# Altium footprint library resistor.PCBLIB: 427 footprints (part 26 of 27)
Each footprint in its own frame and in the unit in brackets; x right, y up, seen from the top. Pads: shape width x height; smd on the part's side, far side on the other; paste and mask are expansions set on the pad; w line width, h text height; cw(c..) or ccw(c..) is an arc to the next point about the centre after c.
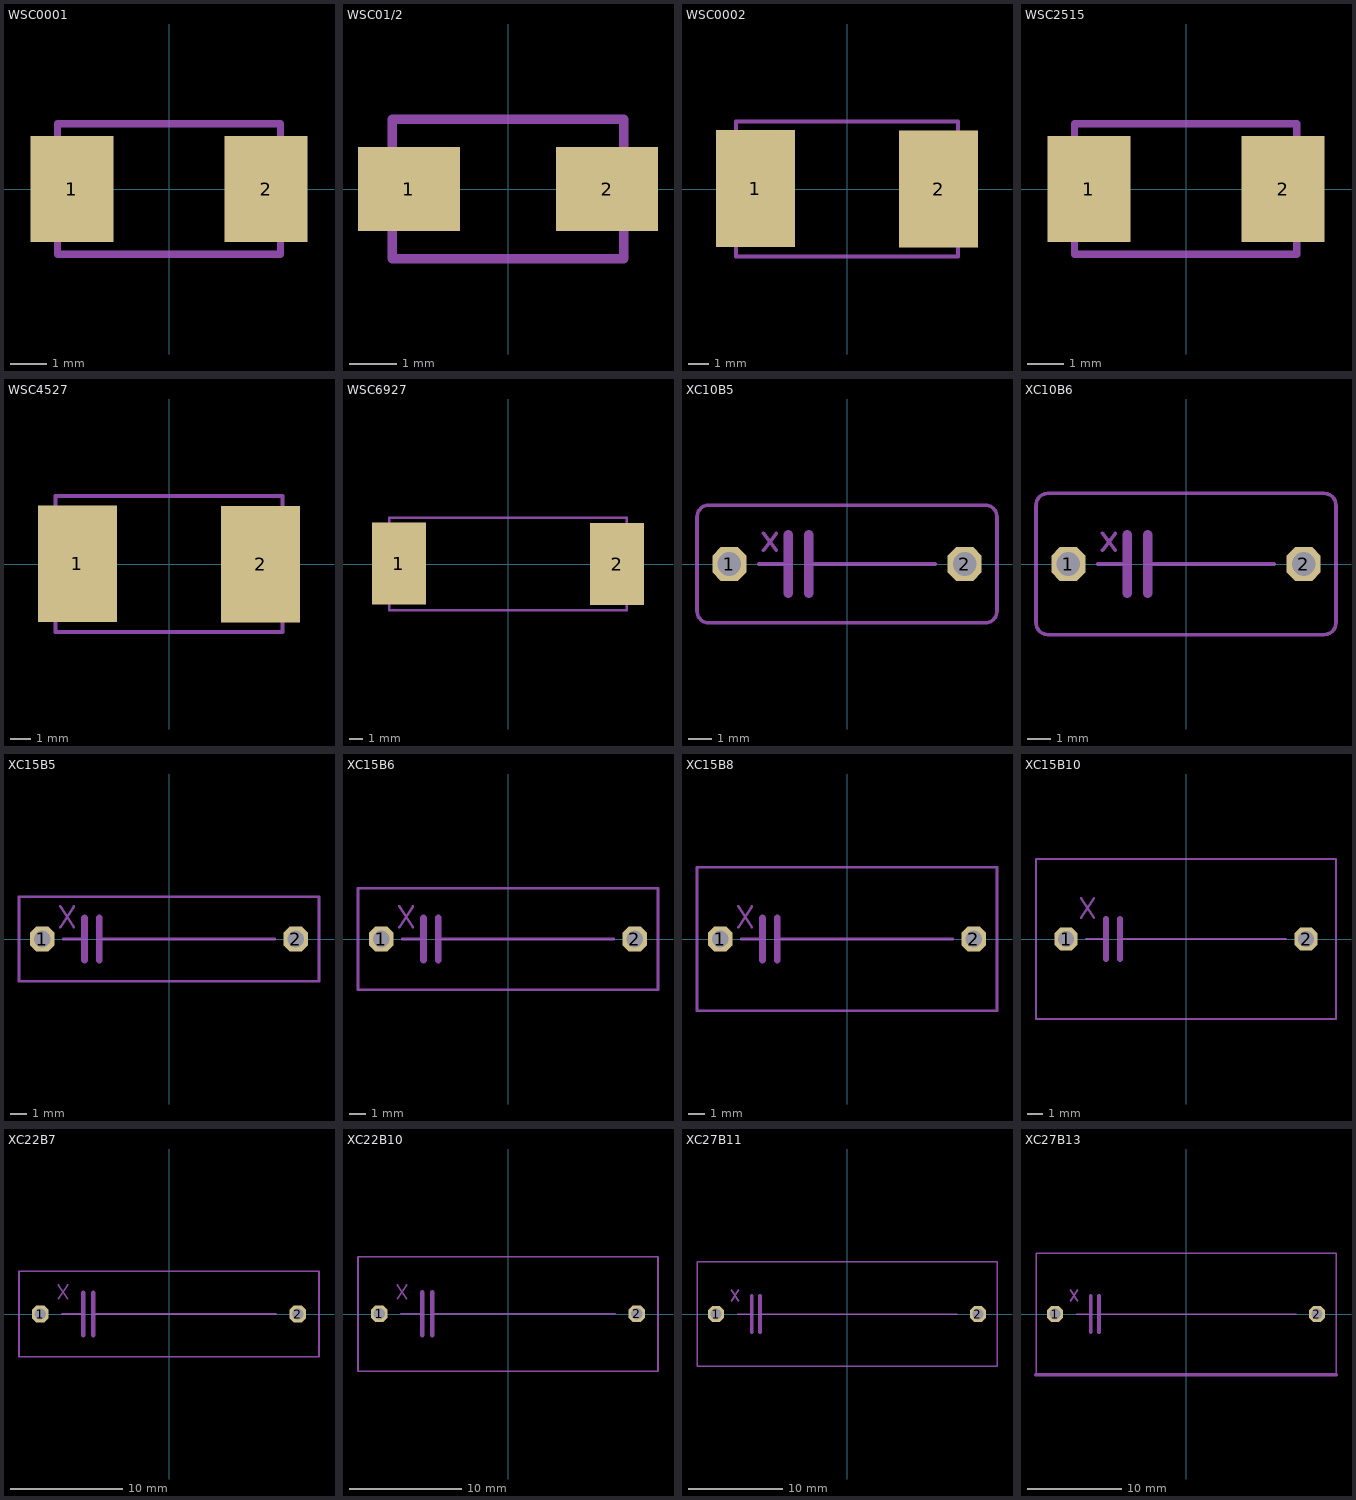
[diagram p25: the footprints below, top view; thin cyan lines are the x and y axes]

## WSC0001 [mm]
pads (2):
  rect 2.29x2.92 smd: 1(-2.675,0) 2(2.675,0)
Mechanical 8:
  lines w0.203: -3.075,-1.8 -3.075,1.8 ; 3.075,-1.8 3.075,1.8
Mechanical 22:
  lines w0.203: -3.075,-1.606 -3.075,-1.8 3.075,-1.8 3.075,-1.606 ; -3.075,1.606 -3.075,1.8 3.075,1.8 3.075,1.606

## WSC01/2 [mm]
pads (2):
  rect 2.16x1.78 smd: 1(-2.1,0) 2(2.1,0)
Mechanical 8:
  lines w0.203: -2.45,-1.475 -2.45,1.475 ; 2.45,-1.475 2.45,1.475
Mechanical 22:
  lines w0.203: -2.45,-1.106 -2.45,-1.475 2.45,-1.475 2.45,-1.106 ; -2.45,1.106 -2.45,1.475 2.45,1.475 2.45,1.106

## WSC0002 [mil]
pads (2):
  rect 155.12x229.92 smd: 1(-180.12,0.98) 2(180.12,0)
Mechanical 8:
  lines w8: -218.5,-132.87 -218.5,132.87 ; 218.5,-132.87 218.5,132.87
Mechanical 22:
  lines w8: -218.5,-132.87 218.5,-132.87 ; -218.5,132.87 218.5,132.87

## WSC2515 [mm]
pads (2):
  rect 2.29x2.92 smd: 1(-2.675,0) 2(2.675,0)
Mechanical 8:
  lines w0.203: -3.075,-1.8 -3.075,1.8 ; 3.05,-1.8 3.05,1.8
Mechanical 22:
  lines w0.203: -3.075,-1.606 -3.075,-1.8 3.05,-1.8 3.05,-1.606 ; -3.075,1.606 -3.075,1.8 3.05,1.8 3.05,1.606

## WSC4527 [mil]
pads (2):
  rect 155.12x229.92 smd: 1(-180.12,0.98) 2(180.12,0)
Mechanical 8:
  lines w8: -223.43,-132.87 -223.43,133.86 ; 223.43,-132.87 223.43,133.86
Mechanical 22:
  lines w8: -223.43,-132.87 223.43,-132.87 ; -223.43,133.86 223.43,133.86

## WSC6927 [mm]
pads (2):
  rect 3.94x5.97 smd: 1(-7.95,0.025) 2(7.95,0)
Mechanical 8:
  lines w0.203: -8.65,-3.375 -8.65,3.375 ; 8.65,-3.375 8.65,3.375
Mechanical 22:
  lines w0.203: -8.65,-3.375 8.65,-3.375 ; -8.65,3.375 8.65,3.375

## XC10B5 [mil]
pads (2):
  oct 58.09x58.09 / inner oct 60x60 / far side oct 58.09x58.09 hole 40: 1(-200,0) 2(200,0)
Mechanical 22:
  lines w6: -150,0 -100,0 ; -142,23 -120,52 ; -142,52 -120,23 ; -65,0 150,0 ; -255,-80 -255,80 cw(c-235,80) -235,100 235,100 cw(c235,80) 255,80 255,-80 cw(c235,-80) 235,-100 -235,-100 cw(c-235,-80) -255,-80
  lines w16: -100,-50 -100,0 -100,50 ; -65,-50 -65,0 -65,50

## XC10B6 [mil]
pads (2):
  oct 58.09x58.09 / inner oct 60x60 / far side oct 58.09x58.09 hole 40: 1(-200,0) 2(200,0)
Mechanical 22:
  lines w6: -150,0 -100,0 ; -142,23 -120,52 ; -142,52 -120,23 ; -65,0 150,0 ; -255,-100 -255,100 cw(c-235,100) -235,120 235,120 cw(c235,100) 255,100 255,-100 cw(c235,-100) 235,-120 -235,-120 cw(c-235,-100) -255,-100
  lines w16: -100,-50 -100,0 -100,50 ; -65,-50 -65,0 -65,50

## XC15B5 [mil]
pads (2):
  oct 58.09x58.09 / inner oct 60x60 / far side oct 58.09x58.09 hole 40: 1(-300,0) 2(300,0)
Mechanical 22:
  lines w6: -257,28 -225,77 ; -257,77 -225,28 ; -250,0 -200,0 ; -165,0 250,0 ; -355,-100 355,-100 355,100 -355,100 -355,-100
  lines w16: -200,-50 -200,0 -200,50 ; -165,-50 -165,0 -165,50

## XC15B6 [mil]
pads (2):
  oct 58.09x58.09 / inner oct 60x60 / far side oct 58.09x58.09 hole 40: 1(-300,0) 2(300,0)
Mechanical 22:
  lines w6: -257,28 -225,77 ; -257,77 -225,28 ; -250,0 -200,0 ; -165,0 250,0 ; -355,-120 355,-120 355,120 -355,120 -355,-120
  lines w16: -200,-50 -200,0 -200,50 ; -165,-50 -165,0 -165,50

## XC15B8 [mil]
pads (2):
  oct 58.09x58.09 / inner oct 60x60 / far side oct 58.09x58.09 hole 40: 1(-300,0) 2(300,0)
Mechanical 22:
  lines w6: -257,28 -225,77 ; -257,77 -225,28 ; -250,0 -200,0 ; -165,0 250,0 ; -355,-170 355,-170 355,170 -355,170 -355,-170
  lines w16: -200,-50 -200,0 -200,50 ; -165,-50 -165,0 -165,50

## XC15B10 [mil]
pads (2):
  oct 58.09x58.09 / inner oct 60x60 / far side oct 58.09x58.09 hole 40: 1(-300,0) 2(300,0)
Mechanical 22:
  lines w6: -262,53 -230,102 ; -262,102 -230,53 ; -250,0 -200,0 ; -165,0 250,0 ; -375,-200 375,-200 375,200 -375,200 -375,-200
  lines w16: -200,-50 -200,0 -200,50 ; -165,-50 -165,0 -165,50

## XC22B7 [mil]
pads (2):
  oct 58.09x58.09 / inner oct 60x60 / far side oct 58.09x58.09 hole 40: 1(-450,0) 2(450,0)
Mechanical 22:
  lines w6: -387,53 -355,102 ; -387,102 -355,53 ; -375,0 -300,0 ; -265,0 375,0 ; -525,-150 525,-150 525,150 -525,150 -525,-150
  lines w16: -300,-75 -300,0 -300,75 ; -265,-75 -265,0 -265,75

## XC22B10 [mil]
pads (2):
  oct 58.09x58.09 / inner oct 60x60 / far side oct 58.09x58.09 hole 40: 1(-450,1) 2(450,1)
Mechanical 22:
  lines w6: -387,53 -355,102 ; -387,102 -355,53 ; -375,1 -300,1 ; -265,1 375,1 ; -525,-200 525,-200 525,200 -525,200 -525,-200
  lines w16: -300,-74 -300,1 -300,76 ; -265,-74 -265,1 -265,76

## XC27B11 [mil]
pads (2):
  oct 68.26x68.26 / inner oct 60x60 / far side oct 68.26x68.26 hole 47: 1(-550,0) 2(550,0)
Mechanical 22:
  lines w6: -487,53 -455,102 ; -487,102 -455,53 ; -462,0 -400,0 ; -365,0 462,0 ; -630,-220 630,-220 630,220 -630,220 -630,-220
  lines w16: -400,-75 -400,0 -400,75 ; -365,-75 -365,0 -365,75

## XC27B13 [mil]
pads (2):
  oct 68.26x68.26 / inner oct 60x60 / far side oct 68.26x68.26 hole 47: 1(-550,0) 2(550,0)
Mechanical 22:
  lines w6: -630,-255 -630,255 630,255 630,-255 ; -487,53 -455,102 ; -487,102 -455,53 ; -462,0 -400,0 ; -365,0 462,0
  lines w16: -630,-255 630,-255 ; -400,-75 -400,0 -400,75 ; -365,-75 -365,0 -365,75